# EAGLE library part MAX16956 (library maxim)
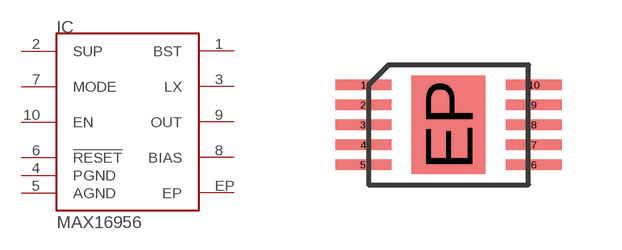
[diagram p4: symbol with the pads of UMAX10; footprint UMAX10]

Designator prefix IC

## MAX16956  [UMAX10]
1  BST  pas
2  SUP  sup
3  LX  pwr
4  PGND  pas
5  AGND
6  !RESET  out
7  MODE  in
8  BIAS  pas
9  OUT  pwr
10  EN  in
EP  EP  pas

## Footprint UMAX10 (pad centres in mm)
smd 1.4 x 0.27: 1 -2.135,1; 2 -2.135,0.5; 3 -2.135,0; 4 -2.135,-0.5; 5 -2.135,-1; 6 2.135,-1; 7 2.135,-0.5; 8 2.135,0; 9 2.135,0.5; 10 2.135,1
smd 1.85 x 2.47: EP 0,0